# Altium footprint library PcbLib1.PcbLib: 17 footprints (part 1 of 2)
Each footprint in its own frame and in the unit in brackets; x right, y up, seen from the top. Pads: shape width x height; smd on the part's side, far side on the other; paste and mask are expansions set on the pad; w line width, h text height; cw(c..) or ccw(c..) is an arc to the next point about the centre after c.
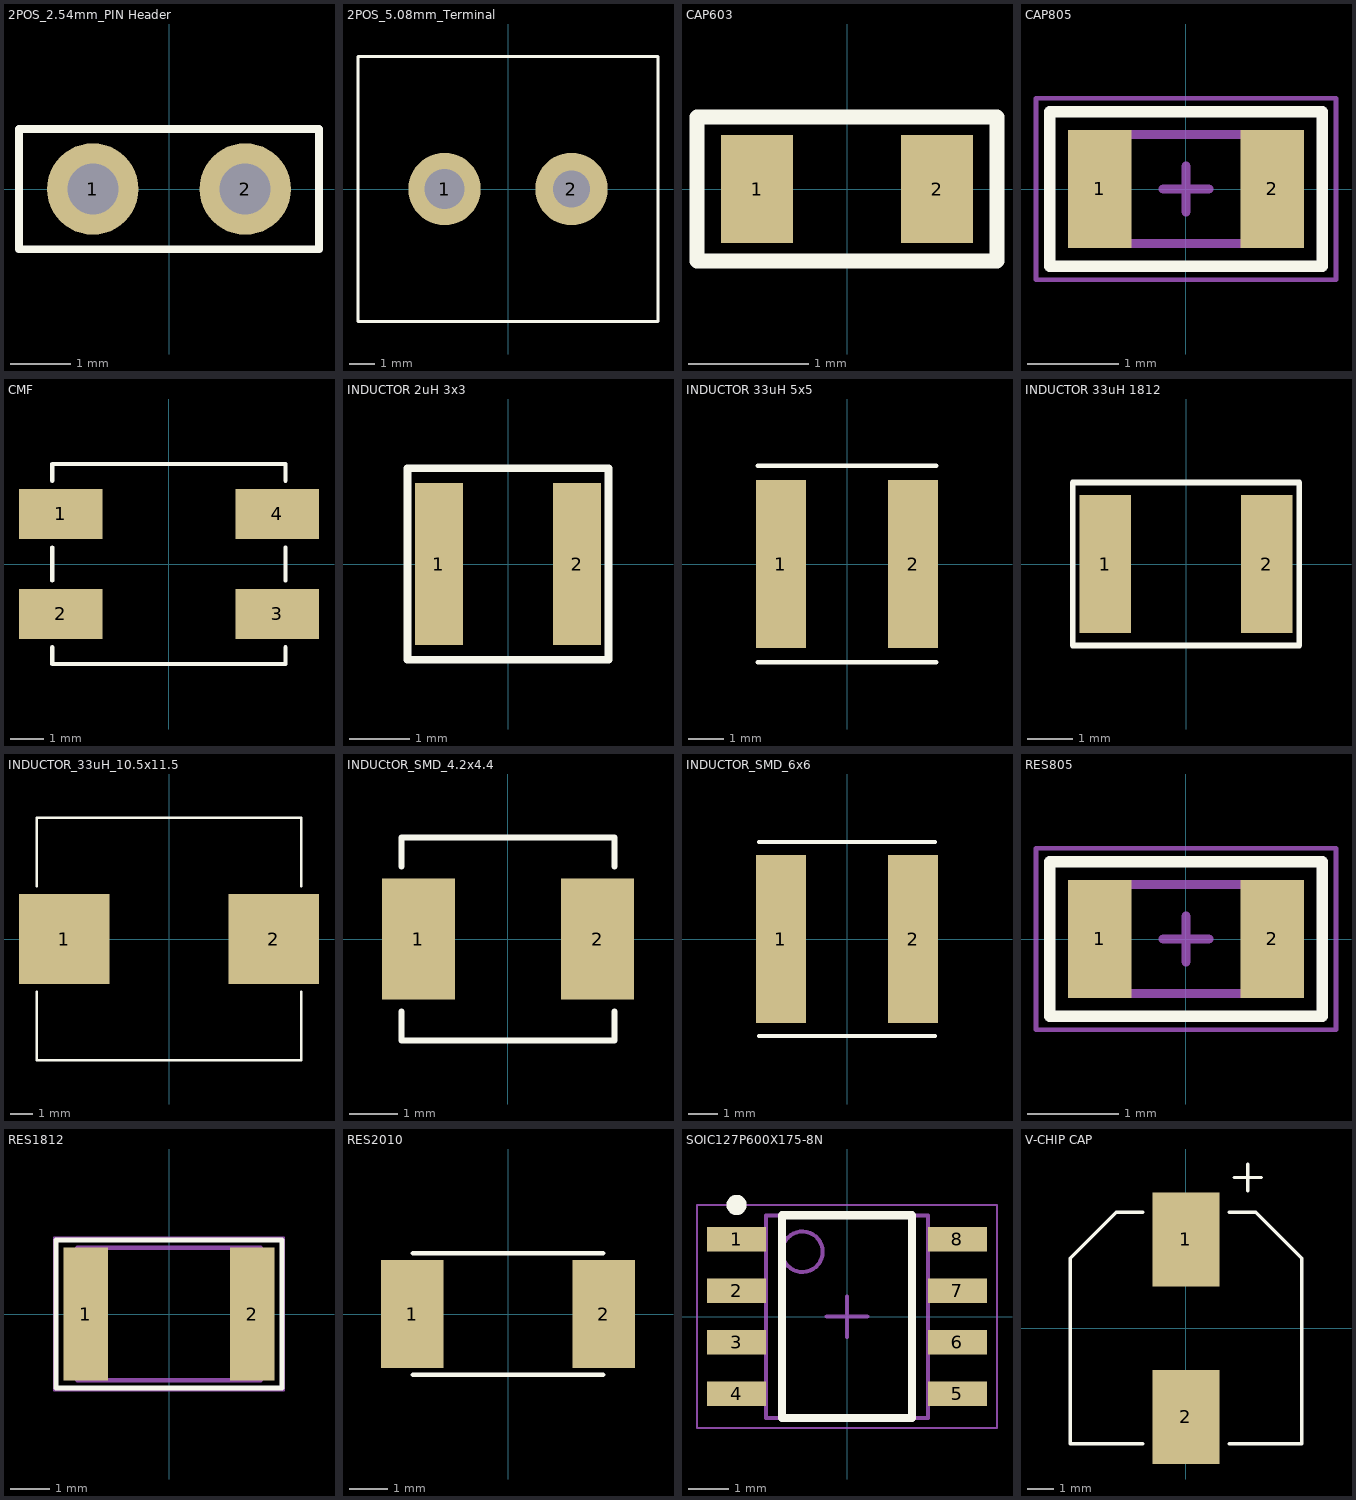
[diagram p0: the footprints below, top view; thin cyan lines are the x and y axes]

## 2POS_2.54mm_PIN Header [mil]
pads (2):
  round 60 hole 33.46: 1(-50,0) 2(50,0)
Top Overlay:
  lines w4.92: -78.74,39.37 78.74,39.37 ; 0,-39.37 78.74,-39.37 ; 0,39.37 78.74,39.37 ; 78.74,-39.37 98.43,-39.37 98.43,39.37 78.74,39.37 ; 78.74,-39.37 -78.74,-39.37 -98.43,-39.37 -98.43,39.37 78.74,39.37

## 2POS_5.08mm_Terminal [mm]
pads (2):
  round 2.9 hole 1.6: 1(-2.54,0)
  round 2.9 hole 1.5: 2(2.54,0)
Top Overlay:
  lines w0.125: -6,-5.3 6,-5.3 6,5.3 -6,5.3 -6,-5.3

## CAP603 [mm]
pads (2):
  rect 0.6x0.9 smd: 1(-0.75,0) 2(0.75,0)
Top Overlay:
  lines w0.125: -1.25,-0.6 1.25,-0.6 1.25,0.6 -1.25,0.6 -1.25,-0.6

## CAP805 [mm]
pads (2):
  rect 0.7x1.3 smd: 1(-0.95,0) 2(0.95,0)
Top Overlay:
  lines w0.125: -1.5,-0.85 -1.25,-0.85 1.25,-0.85 1.5,-0.85 1.5,-0.6 1.5,0.6 1.5,0.85 1.25,0.85 -1.25,0.85 -1.5,0.85 -1.5,0.6 -1.5,-0.6 -1.5,-0.85
Mechanical 13:
  lines w0.1: -1,-0.6 1,-0.6 1,0.6 -1,0.6 -1,-0.6
Mechanical 15:
  lines w0.05: -1.65,-1 1.65,-1 1.65,1 -1.65,1 -1.65,-1
  lines w0.1: -0.25,0 0.25,0 ; 0,-0.25 0,0.25
3D body "RESC2012X04N.step": height 0.45, standoff 0, extent -1,-0.6 1,0.6

## CMF [mm]
pads (4):
  rect 2.5x1.5 smd: 1(-3.25,1.5) 2(-3.25,-1.5) 3(3.25,-1.5) 4(3.25,1.5)
Top Overlay:
  lines w0.125: -3.5,-2.5 -3.5,-3 3.5,-3 3.5,-2.5 ; -3.5,-0.5 -3.5,0.5 ; -3.5,2.5 -3.5,3 3.5,3 3.5,2.5 ; 3.5,-0.5 3.5,0.5

## INDUCTOR 2uH 3x3 [mm]
pads (2):
  rect 0.8x2.7 smd: 1(-1.15,0) 2(1.15,0)
Top Overlay:
  lines w0.125: -1.675,-1.6 -1.675,1.6 1.675,1.6 1.675,-1.6 -1.675,-1.6

## INDUCTOR 33uH 5x5 [mm]
pads (2):
  rect 1.4x4.7 smd: 1(-1.85,0) 2(1.85,0)
Top Overlay:
  lines w0.125: -2.5,-2.75 2.5,-2.75 ; -2.5,2.75 2.5,2.75

## INDUCTOR 33uH 1812 [mm]
pads (2):
  rect 1.14x3.05 smd: 1(-1.785,0) 2(1.785,0)
Top Overlay:
  lines w0.125: -2.5,-1.8 2.5,-1.8 2.5,1.8 -2.5,1.8 -2.5,-1.8

## INDUCTOR_33uH_10.5x11.5 [mm]
pads (2):
  rect 4.1x4.1 smd: 1(-4.75,0) 2(4.75,0)
Top Overlay:
  lines w0.125: -6,-2.4 -6,-5.5 6,-5.5 6,-2.4 ; -6,2.4 -6,5.5 6,5.5 6,2.4

## INDUCtOR_SMD_4.2x4.4 [mm]
pads (2):
  rect 1.5x2.5 smd: 1(-1.85,0) 2(1.85,0)
Top Overlay:
  lines w0.125: -2.2,-1.5 -2.2,-2.1 2.2,-2.1 2.2,-1.5 ; -2.2,1.5 -2.2,2.1 2.2,2.1 2.2,1.5

## INDUCTOR_SMD_6x6 [mm]
pads (2):
  rect 1.7x5.7 smd: 1(-2.25,0) 2(2.25,0)
Top Overlay:
  lines w0.125: -3,-3.3 3,-3.3 ; -3,3.3 3,3.3

## RES805 [mm]
pads (2):
  rect 0.7x1.3 smd: 1(-0.95,0) 2(0.95,0)
Top Overlay:
  lines w0.125: -1.5,-0.85 -1.25,-0.85 1.25,-0.85 1.5,-0.85 1.5,-0.6 1.5,0.6 1.5,0.85 1.25,0.85 -1.25,0.85 -1.5,0.85 -1.5,0.6 -1.5,-0.6 -1.5,-0.85
Mechanical 13:
  lines w0.1: -1,-0.6 1,-0.6 1,0.6 -1,0.6 -1,-0.6
Mechanical 15:
  lines w0.05: -1.65,-1 1.65,-1 1.65,1 -1.65,1 -1.65,-1
  lines w0.1: -0.25,0 0.25,0 ; 0,-0.25 0,0.25
3D body "RESC2012X04N.step": height 0.45, standoff 0, extent -1,-0.6 1,0.6

## RES1812 [mm]
pads (2):
  rect 1.14x3.42 smd: 1(-2.14,0) 2(2.14,0)
Top Overlay:
  lines w0.125: -2.9,1.9 -2.9,-1.9 -1.2,-1.9 ; 1.3,-1.9 2.9,-1.9 2.9,1.9
  lines w0.127: -2.9,1.9 2.9,1.9 ; -1.2,-1.9 1.3,-1.9
Mechanical 13:
  lines w0.127: -2.35,-1.7 -2.35,1.7 2.35,1.7 2.35,-1.7 -2.35,-1.7
Mechanical 15:
  lines w0.05: -2.958,-1.958 -2.958,1.958 2.958,1.958 2.958,-1.958 -2.958,-1.958

## RES2010 [mm]
pads (2):
  rect 1.65x2.85 smd: 1(-2.525,0) 2(2.525,0)
Top Overlay:
  lines w0.125: -2.5,-1.6 2.5,-1.6 ; -2.5,1.6 2.5,1.6

## SOIC127P600X175-8N [mm] "SOIC, 8-Leads, Body 4.90x3.90mm, Pitch 1.27mm, IPC Medium Density"
height 1.75
pads (8):
  rect 1.45x0.6 smd: 1(-2.725,1.905) 2(-2.725,0.635) 3(-2.725,-0.635) 4(-2.725,-1.905) 5(2.725,-1.905) 6(2.725,-0.635) 7(2.725,0.635) 8(2.725,1.905)
Top Overlay:
  circle w0.25: c-2.725,2.755 r0.125
  lines w0.2: -1.6,-2.5 -1.6,2.5 1.6,2.5 1.6,-2.5 -1.6,-2.5
Mechanical 13:
  circle w0.1: c-1.1,1.6 r0.5
  lines w0.1: -2,-2.5 -2,2.5 2,2.5 2,-2.5 -2,-2.5
Mechanical 15:
  lines w0.05: -3.7,-2.75 -3.7,2.75 3.7,2.75 3.7,-2.75 -3.7,-2.75
  lines w0.1: -0.5,0 0.5,0 ; 0,-0.5 0,0.5
3D body "SOIC127P600X175-8N.step": height 1.75, standoff 0, extent -3,-2.5 3,2.5

## V-CHIP CAP [mm]
pads (2):
  rect 2.5x3.5 smd: 1(0,3.3) 2(0,-3.3)
Top Overlay:
  lines w0.125: -1.6,-4.3 -4.3,-4.3 -4.3,2.6 -2.6,4.3 -1.6,4.3 ; 1.6,-4.3 4.3,-4.3 4.3,2.6 2.6,4.3 1.6,4.3 ; 1.8,5.6 2.8,5.6 ; 2.3,5.1 2.3,6.1